# EAGLE library part FT231X*-X-? (library IC_Interface)
FT231X USB TO FULL HANDSHAKE UART IC Datasheet <http://www.ftdichip.com/Support/Documents/DataSheets/ICs/DS_FT231X.pdf>
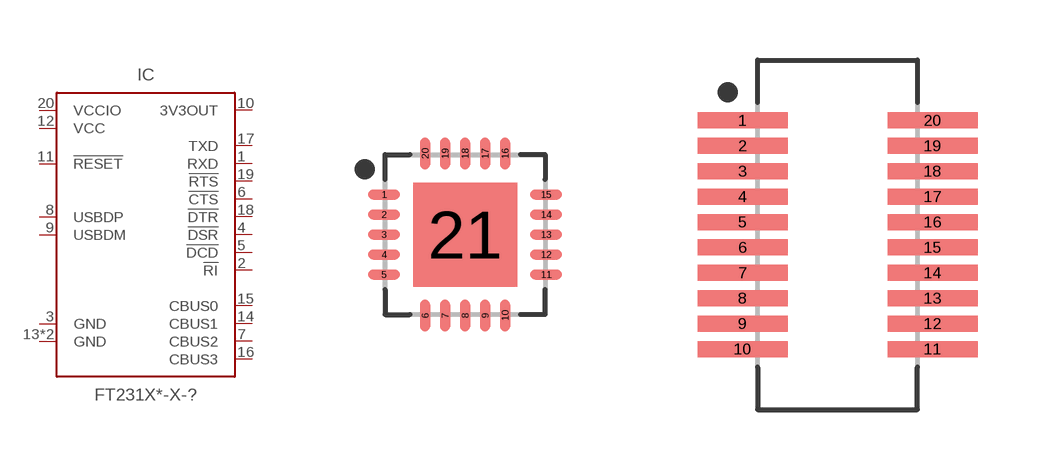
[diagram p5: symbol with the pads of QFN50P400X400X80-21T260; footprints QFN50P400X400X80-21T260, SOP63P599X175-20]

Designator prefix IC

## FT231XQ-X-_QFN (CATEGORY: IC_Interface; DESCRIPTION: USB TO FULL HANDSHAKE UART IC; MANUFACTURER: Future Technology Devices International Limited; MPN: FT231XQ-x; OPERATING_TEMP: -40°C to 85°C; PART_STATUS: Active; ROHS_COMPLIANT: COMPLIANT; SERIES: FT231X; SUB-CATEGORY: USB to UART; VALUE: FT231XQ)  [QFN50P400X400X80-21T260]
1  RXD  in
2  !RI  in
3  GND  pwr
4  !DSR  in
5  !DCD  in
6  !CTS  in
7  CBUS2
8  USBDP
9  USBDM
10  3V3OUT  out
11  !RESET  in
12  VCC  pwr
13  GND  pwr
14  CBUS1
15  CBUS0
16  CBUS3
17  TXD  out
18  !DTR  out
19  !RTS  out
20  VCCIO  pwr
21  GND  pwr

## FT231XS-X-_SSOP (CATEGORY: IC_Interface; DESCRIPTION: USB TO FULL HANDSHAKE UART IC; MANUFACTURER: Future Technology Devices International Limited; MPN: FT231XS-x; OPERATING_TEMP: -40°C to 85°C; PART_STATUS: Active; ROHS_COMPLIANT: COMPLIANT; SERIES: FT231X; SUB-CATEGORY: USB to UART; VALUE: FT231XQ)  [SOP63P599X175-20]
1  !DTR  out
2  !RTS  out
3  VCCIO  pwr
4  RXD  in
5  !RI  in
6  GND  pwr
7  !DSR  in
8  !DCD  in
9  !CTS  in
10  CBUS2
11  USBDP
12  USBDM
13  3V3OUT  out
14  !RESET  in
15  VCC  pwr
16  GND  pwr
17  CBUS1
18  CBUS0
19  CBUS3
20  TXD  out

## Footprint QFN50P400X400X80-21T260 (pad centres in mm)
20-QFN, 0.50 mm pitch, 4.00 X 4.00 X 0.80 mm body, 2.60 X 2.60 mm thermal pad 20-pin QFN package with 0.50 mm pitch with body size 4.00 X 4.00 X 0.80 mm and thermal pad size 2.60 X 2.60 mm
smd 0.8 x 0.25: 1 -2.025,1; 2 -2.025,0.5; 3 -2.025,0; 4 -2.025,-0.5; 5 -2.025,-1; 11 2.025,-1; 12 2.025,-0.5; 13 2.025,0; 14 2.025,0.5; 15 2.025,1
smd 0.25 x 0.8: 6 -1,-2.025; 7 -0.5,-2.025; 8 0,-2.025; 9 0.5,-2.025; 10 1,-2.025; 16 1,2.025; 17 0.5,2.025; 18 0,2.025; 19 -0.5,2.025; 20 -1,2.025
smd 2.6 x 2.6: 21 0,0

## Footprint SOP63P599X175-20 (pad centres in mm)
20-SOP, 0.64 mm pitch, 5.99 mm span, 8.65 X 3.90 X 1.75 mm body 20-pin SOP package with 0.64 mm pitch, 5.99 mm span with body size 8.65 X 3.90 X 1.75 mm
smd 2.25 x 0.4: 1 -2.375,2.857; 2 -2.375,2.223; 3 -2.375,1.587; 4 -2.375,0.953; 5 -2.375,0.318; 6 -2.375,-0.318; 7 -2.375,-0.953; 8 -2.375,-1.587; 9 -2.375,-2.223; 10 -2.375,-2.857; 11 2.375,-2.857; 12 2.375,-2.223; 13 2.375,-1.587; 14 2.375,-0.953; 15 2.375,-0.318; 16 2.375,0.318; 17 2.375,0.953; 18 2.375,1.587; 19 2.375,2.223; 20 2.375,2.857